# EAGLE library part MAX8606 (library maxim)
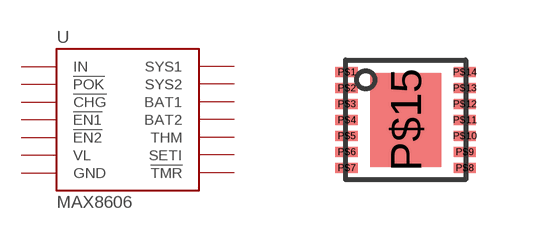
[diagram p0: symbol with the pads of TDFN-14; footprint TDFN-14]

Designator prefix -

## MAX8606  [TDFN-14]
P$1  BAT1
P$2  BAT2
P$3  IN
P$4  VL
P$5  THM
P$6  !CHG
P$7  !POK
P$8  !TMR
P$9  !EN2
P$10  !EN1
P$11  GND
P$12  SETI
P$13  SYS1
P$14  SYS2
P$15  TPAD

## Footprint TDFN-14 (pad centres in mm)
smd 0.56 x 0.25: P$1 -1.475,1.2; P$2 -1.475,0.8; P$3 -1.475,0.4; P$4 -1.475,0; P$5 -1.475,-0.4; P$6 -1.475,-0.8; P$7 -1.475,-1.2; P$8 1.475,-1.2; P$9 1.475,-0.8; P$10 1.475,-0.4; P$11 1.475,0; P$12 1.475,0.4; P$13 1.475,0.8; P$14 1.475,1.2
smd 1.78 x 2.35: P$15 0,0